# Altium schematic symbol library DAC7562.Schlib: 1 symbol
Pins are listed as number, name and electrical type; pins without a type are passive.

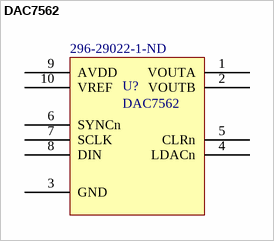
[diagram p0: symbol DAC7562]

## DAC7562
designator U?  Supplier Part Number 1: 296-29022-1-ND
12-bit, low-power, voltage-output DAC with internal reference.; Supplier 1: Digi-Key
footprint SSOP50P300X300-10N (Footprint is labelled incorrectly, should be SSOP + Pitch P + Nominal Lead Length X Height - #Pins)
pins: 1 VOUTA, 2 VOUTB, 3 GND, 4 LDACn, 5 CLRn, 6 SYNCn, 7 SCLK, 8 DIN, 9 AVDD, 10 VREF